# EAGLE library part ADP223ACPZ-R7 (library C3-AnalogDevices)
Dual, 300 mA Adjustable Output, Low Noise, High PSRR Voltage Regulator
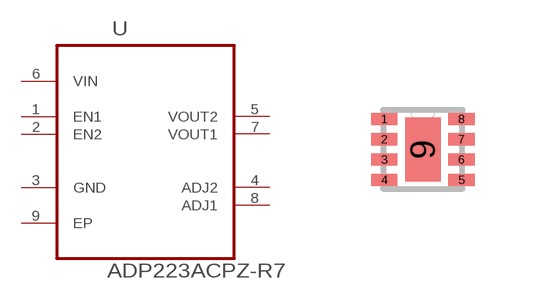
[diagram p0: symbol with the pads of QFN50P200X200X60-9N; footprint QFN50P200X200X60-9N]

Designator prefix U

## ADP223ACPZ-R7 (MPN: ADP223ACPZ-R7; OC_FARNELL: 1903622; OC_NEWARK: 47T4648; PACKAGE: LFCSP-8; SUPPLIER: Analog Devices)  [QFN50P200X200X60-9N]
1  EN1  pas
2  EN2  pas
3  GND  pas
4  ADJ2  pas
5  VOUT2  pas
6  VIN  pas
7  VOUT1  pas
8  ADJ1  pas
9  EP  pas

## Footprint QFN50P200X200X60-9N (pad centres in mm)
smd 0.66 x 0.305: 1 -0.965,0.762; 2 -0.965,0.254; 3 -0.965,-0.254; 4 -0.965,-0.762; 5 0.965,-0.762; 6 0.965,-0.254; 7 0.965,0.254; 8 0.965,0.762
smd 0.889 x 1.6: 9 0,0